# Altium schematic symbol library Logic IC GOST.SchLib: 8 symbols
Pins are listed as number, name and electrical type; pins without a type are passive.

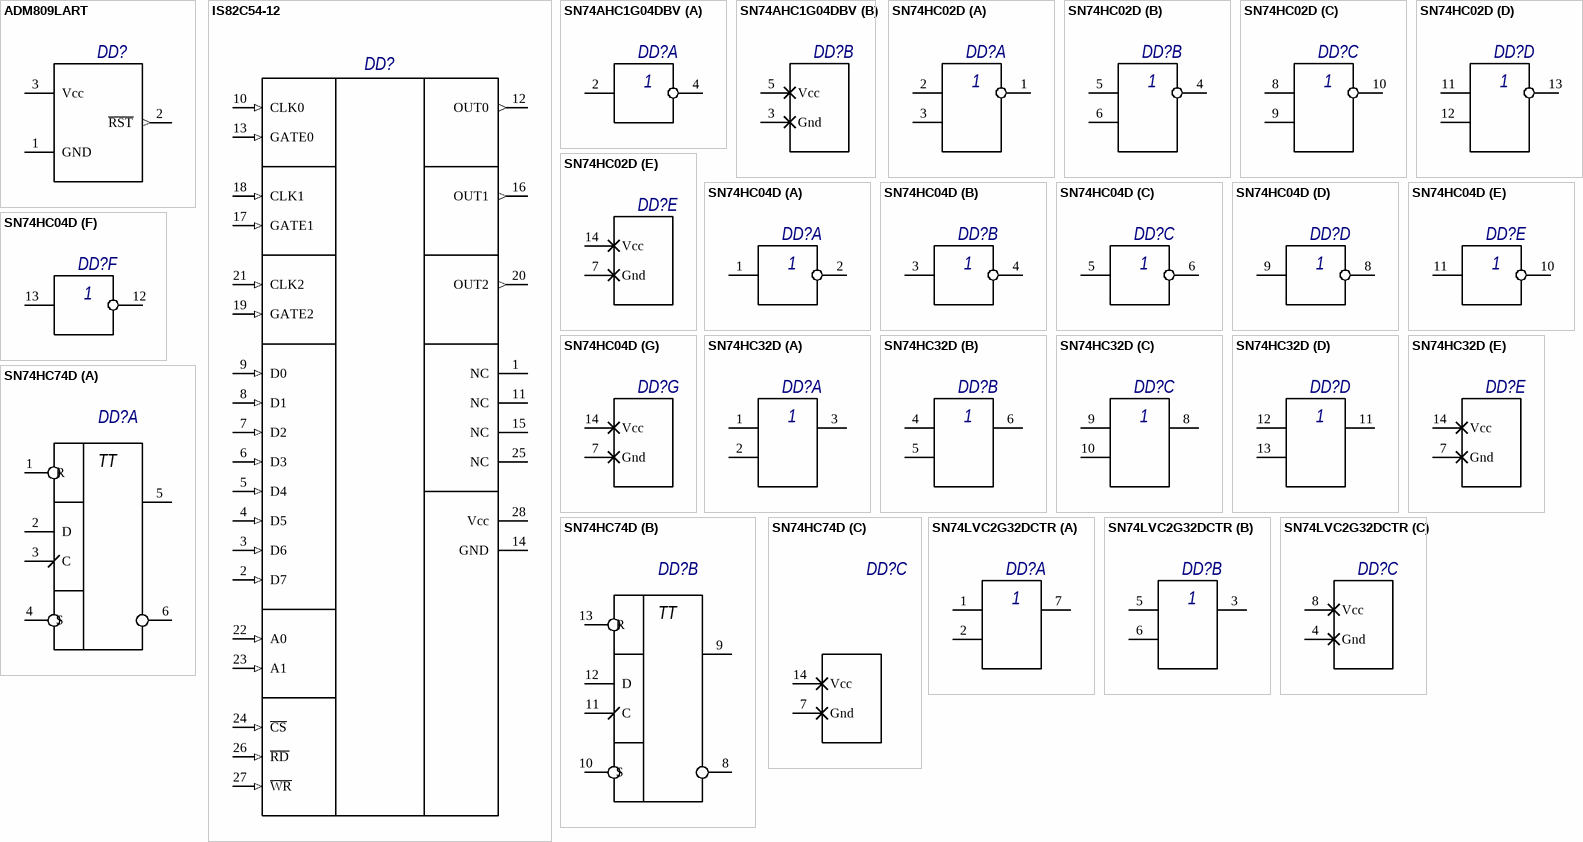
[diagram p0: symbols ADM809LART to SN74LVC2G32DCTR]

## ADM809LART
designator DD?
Microprocessor Supervisory Circuits; RegType: ЕН5; Published: 13.05.2010; Publisher: Andrew Danich; Type: Микросхема
pins: 1 GND (power), 2 ~{RST} (out), 3 Vcc (power)

## IS82C54-12
designator DD?  (value not drawn)
CMOS Programmable Interval Timer
footprint SOIC-20W (SOIC, 20-Leads, Body 12,80x7,50mm, Pitch 1,27mm, IPC Medium Density)
pins: 1 NC, 2 D7 (in), 3 D6 (in), 4 D5 (in), 5 D4 (in), 6 D3 (in), 7 D2 (in), 8 D1 (in), 9 D0 (in), 10 CLK0 (in), 11 NC, 12 OUT0 (out), 13 GATE0 (in), 14 GND (power), 15 NC, 16 OUT1 (out), 17 GATE1 (in), 18 CLK1 (in), 19 GATE2 (in), 20 OUT2 (out), 21 CLK2 (in), 22 A0 (in), 23 A1 (in), 24 ~{CS} (in), 25 NC, 26 ~{RD} (in), 27 ~{WR} (in), 28 Vcc (power)

## SN74AHC1G04DBV
designator DD?  (value not drawn)
Single Inverter Gate
part A pins: 2, 4
part B pins: 3 Gnd (power), 5 Vcc (power)
part A text: 1

## SN74HC02D
designator DD?  (value not drawn)
Quadruple 2-Input Positive-NOR Gates
part A pins: 1, 2, 3
part B pins: 4, 5, 6
part C pins: 8, 9, 10
part D pins: 11, 12, 13
part E pins: 7 Gnd (power), 14 Vcc (power)

## SN74HC04D
designator DD?  (value not drawn)
Hex Inverters
part A pins: 1, 2
part B pins: 3, 4
part C pins: 5, 6
part D pins: 8, 9
part E pins: 10, 11
part F pins: 12, 13
part G pins: 7 Gnd (power), 14 Vcc (power)

## SN74HC32D
designator DD?  (value not drawn)
Quadruple 2-Input Positive-OR Gates
part A pins: 1, 2, 3
part B pins: 4, 5, 6
part C pins: 8, 9, 10
part D pins: 11, 12, 13
part E pins: 7 Gnd (power), 14 Vcc (power)

## SN74HC74D
designator DD?, comment D trigger  (value not drawn)
Dual D-Type Positive-Edge-Triggered Flip-Flops / With Clear and Preset
part A pins: 1 R, 2 D, 3 C, 4 S, 5 Q, 6 ~{Q}
part B pins: 8 ~{Q}, 9 Q, 10 S, 11 C, 12 D, 13 R
part C pins: 7 Gnd (power), 14 Vcc (power)
part A text: TT
part B text: TT

## SN74LVC2G32DCTR
designator DD?  (value not drawn)
Dual 2-Input Positive-OR Gate
part A pins: 1, 2, 7
part B pins: 3, 5, 6
part C pins: 4 Gnd (power), 8 Vcc (power)